# Altium footprint library ANTC1608X90N.PcbLib: 1 footprints
Each footprint in its own frame and in the unit in brackets; x right, y up, seen from the top. Pads: shape width x height; smd on the part's side, far side on the other; paste and mask are expansions set on the pad; w line width, h text height; cw(c..) or ccw(c..) is an arc to the next point about the centre after c.
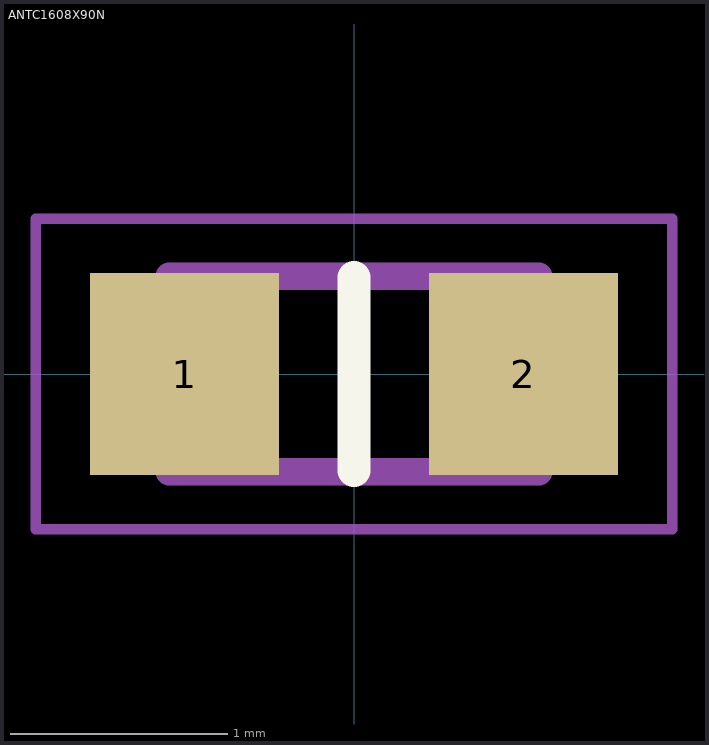
[diagram p0: the footprint, top view; thin cyan lines are the x and y axes]

## ANTC1608X90N [mm]
pads (2):
  rect 0.87x0.93 smd: 1(-0.78,0) 2(0.78,0)
Top Overlay:
  lines w0.152: 0,-0.445 0,0.445
Mechanical 13:
  lines w0.127: -0.85,-0.45 0.85,-0.45 0.85,0.45 -0.85,0.45 -0.85,-0.45
Mechanical 15:
  lines w0.05: -1.465,-0.715 1.465,-0.715 1.465,0.715 -1.465,0.715 -1.465,-0.715
3D body "GGM188R71C105KA64D.STEP": height 0.81, standoff 0.01, extent -0.8,-0.445 0.8,0.456